# Altium schematic symbol library kmilo17pet-NSC_Interface.SchLib: 1433 symbols (part 39 of 51)
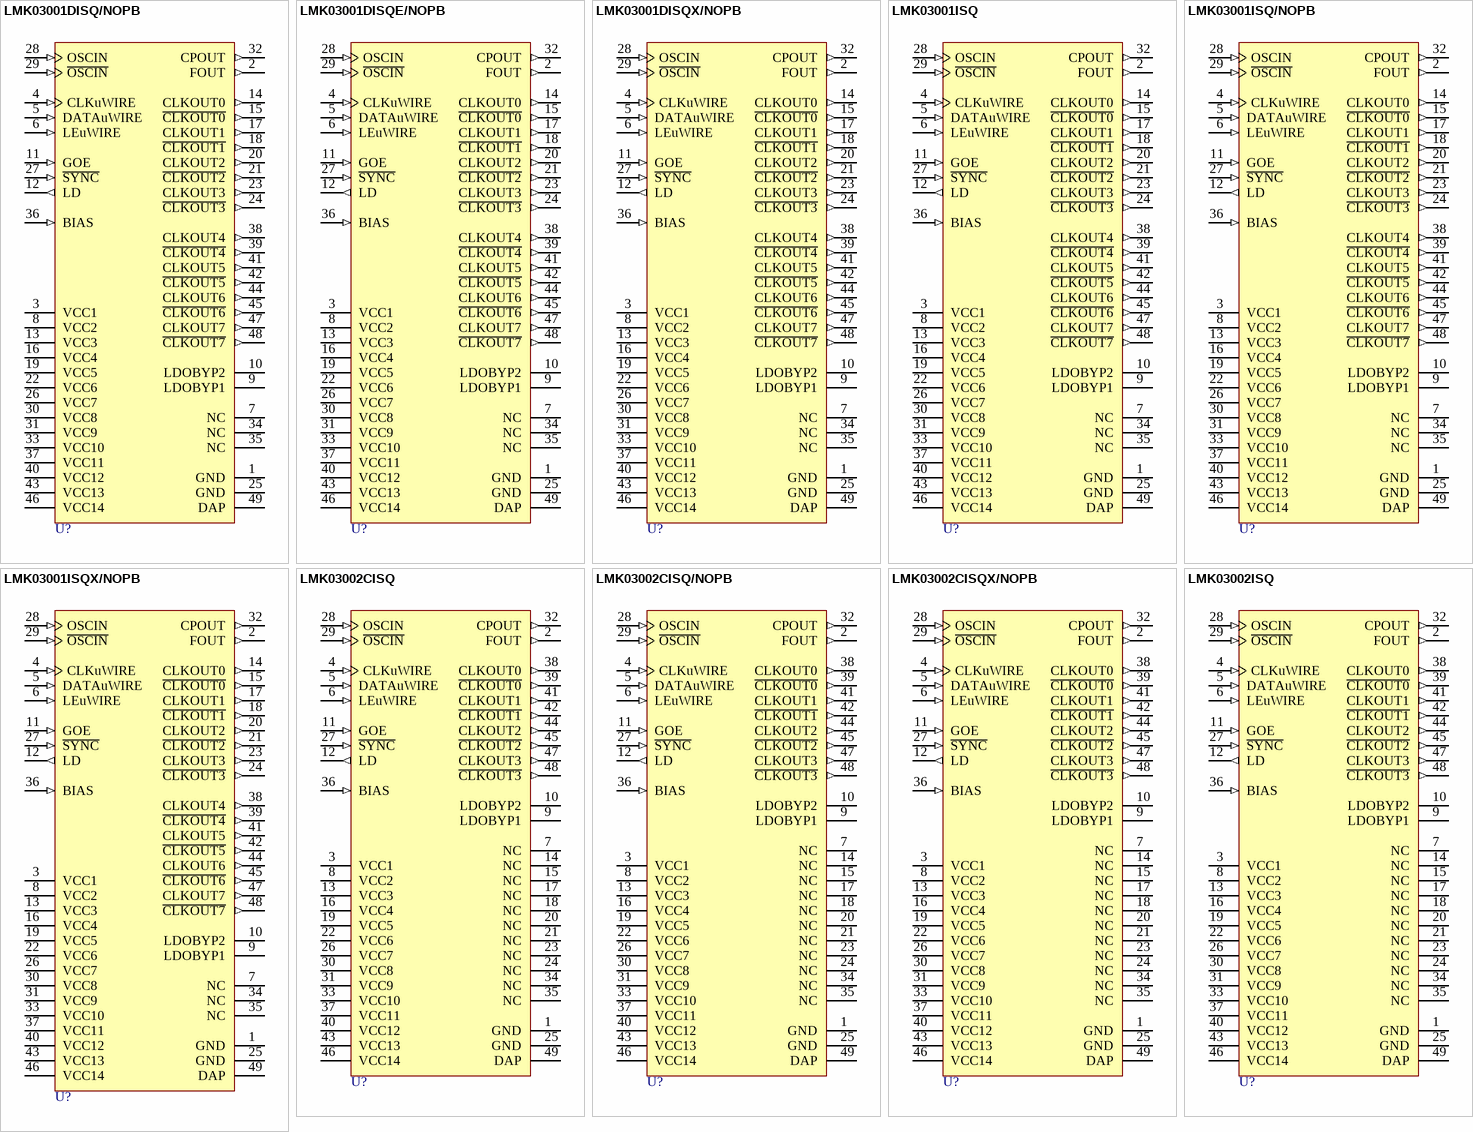
[diagram p162: symbols LMK03001DISQ/NOPB to LMK03002ISQ]

## LMK03001ISQX/NOPB
designator U?
Precision Clock Conditioner with Integrated VCO, 48-pin LLP, Pb-Free; PartNumber: LMK03001ISQX/NOPB; Manufacturer: National Semiconductor; PackageTopMarking: NS*UZXYTTE#*K03001 I; PowerWise: Y; CompType: Interface IC; DatasheetVersion: Jul-2009; PackageVersion: revB, May-2009; PackageReference: SQA48A; PackageDescription: LLP, Plastic, Quad, 7 x 7 x 0.8mm Body, 48 Lead, 0.5mm Pitch, No Pullback; RoHS: Y; PinCount: 48; High-Reliability: Y; Code_JEDEC: MO-220-WKKD-2; ComponentLink1Description: Manufacturer URL; ComponentLink1URL: http://www.national.com/; ComponentLink2Description: LMK03001 Datasheet; ComponentLink2URL: http://www.national.com/ds/LM/LMK03001.pdf; ComponentLink3Description: LMK03001 Web Page; ComponentLink3URL: http://www.national.com/pf/LM/LMK03001.html; ComponentLink4Description: SQA48A Package Page; ComponentLink4URL: http://www.national.com/packaging/folders/sqa48a.html
footprint SQA48A (QFN, 48-Leads, Body 7x7mm, Pitch 0.5mm, Thermal Pad 5.2x5.2mm, NSC Recommended)
pins: 1 GND (power), 2 FOUT (out), 3 VCC1 (power), 4 CLKuWIRE (in), 5 DATAuWIRE (in), 6 LEuWIRE (in), 7 NC, 8 VCC2 (power), 9 LDOBYP1, 10 LDOBYP2, 11 GOE (in), 12 LD (out), 13 VCC3 (power), 14 CLKOUT0 (out), 15 ~{CLKOUT0} (out), 16 VCC4 (power), 17 CLKOUT1 (out), 18 ~{CLKOUT1} (out), 19 VCC5 (power), 20 CLKOUT2 (out), 21 ~{CLKOUT2} (out), 22 VCC6 (power), 23 CLKOUT3 (out), 24 ~{CLKOUT3} (out), 25 GND (power), 26 VCC7 (power), 27 ~{SYNC} (in), 28 OSCIN (in), 29 ~{OSCIN} (in), 30 VCC8 (power), 31 VCC9 (power), 32 CPOUT (out), 33 VCC10 (power), 34 NC, 35 NC, 36 BIAS (in), 37 VCC11 (power), 38 CLKOUT4 (out), 39 ~{CLKOUT4} (out), 40 VCC12 (power), 41 CLKOUT5 (out), 42 ~{CLKOUT5} (out), 43 VCC13 (power), 44 CLKOUT6 (out), 45 ~{CLKOUT6} (out), 46 VCC14 (power), 47 CLKOUT7 (out), 48 ~{CLKOUT7} (out), 49 DAP (power)

## LMK03002CISQ
designator U?
Precision Clock Conditioner with Integrated VCO, 48-pin LLP; PartNumber: LMK03002CISQ; Manufacturer: National Semiconductor; PackageTopMarking: NS*UZXYTT*K03002CI; PowerWise: Y; CompType: Interface IC; DatasheetVersion: Jul-2009; PackageVersion: revB, May-2009; PackageReference: SQA48A; PackageDescription: LLP, Plastic, Quad, 7 x 7 x 0.8mm Body, 48 Lead, 0.5mm Pitch, No Pullback; RoHS: Y; PinCount: 48; High-Reliability: Y; Code_JEDEC: MO-220-WKKD-2; ComponentLink1Description: Manufacturer URL; ComponentLink1URL: http://www.national.com/; ComponentLink2Description: LMK03002C Datasheet; ComponentLink2URL: http://www.national.com/ds/LM/LMK03002C.pdf; ComponentLink3Description: LMK03002C Web Page; ComponentLink3URL: http://www.national.com/pf/LM/LMK03002C.html; ComponentLink4Description: SQA48A Package Page; ComponentLink4URL: http://www.national.com/packaging/folders/sqa48a.html
footprint SQA48A (QFN, 48-Leads, Body 7x7mm, Pitch 0.5mm, Thermal Pad 5.2x5.2mm, NSC Recommended)
pins: 1 GND (power), 2 FOUT (out), 3 VCC1 (power), 4 CLKuWIRE (in), 5 DATAuWIRE (in), 6 LEuWIRE (in), 7 NC, 8 VCC2 (power), 9 LDOBYP1, 10 LDOBYP2, 11 GOE (in), 12 LD (out), 13 VCC3 (power), 14 NC, 15 NC, 16 VCC4 (power), 17 NC, 18 NC, 19 VCC5 (power), 20 NC, 21 NC, 22 VCC6 (power), 23 NC, 24 NC, 25 GND (power), 26 VCC7 (power), 27 ~{SYNC} (in), 28 OSCIN (in), 29 ~{OSCIN} (in), 30 VCC8 (power), 31 VCC9 (power), 32 CPOUT (out), 33 VCC10 (power), 34 NC, 35 NC, 36 BIAS (in), 37 VCC11 (power), 38 CLKOUT0 (out), 39 ~{CLKOUT0} (out), 40 VCC12 (power), 41 CLKOUT1 (out), 42 ~{CLKOUT1} (out), 43 VCC13 (power), 44 CLKOUT2 (out), 45 ~{CLKOUT2} (out), 46 VCC14 (power), 47 CLKOUT3 (out), 48 ~{CLKOUT3} (out), 49 DAP (power)

## LMK03002CISQ/NOPB
designator U?
Precision Clock Conditioner with Integrated VCO, 48-pin LLP, Pb-Free; PartNumber: LMK03002CISQ/NOPB; Manufacturer: National Semiconductor; PackageTopMarking: NS*UZXYTTE#*K03002CI; PowerWise: Y; CompType: Interface IC; DatasheetVersion: Jul-2009; PackageVersion: revB, May-2009; PackageReference: SQA48A; PackageDescription: LLP, Plastic, Quad, 7 x 7 x 0.8mm Body, 48 Lead, 0.5mm Pitch, No Pullback; RoHS: Y; PinCount: 48; High-Reliability: Y; Code_JEDEC: MO-220-WKKD-2; ComponentLink1Description: Manufacturer URL; ComponentLink1URL: http://www.national.com/; ComponentLink2Description: LMK03002C Datasheet; ComponentLink2URL: http://www.national.com/ds/LM/LMK03002.pdf; ComponentLink3Description: LMK03002C Web Page; ComponentLink3URL: http://www.national.com/pf/LM/LMK03002C.html; ComponentLink4Description: SQA48A Package Page; ComponentLink4URL: http://www.national.com/packaging/folders/sqa48a.html
footprint SQA48A (QFN, 48-Leads, Body 7x7mm, Pitch 0.5mm, Thermal Pad 5.2x5.2mm, NSC Recommended)
pins: 1 GND (power), 2 FOUT (out), 3 VCC1 (power), 4 CLKuWIRE (in), 5 DATAuWIRE (in), 6 LEuWIRE (in), 7 NC, 8 VCC2 (power), 9 LDOBYP1, 10 LDOBYP2, 11 GOE (in), 12 LD (out), 13 VCC3 (power), 14 NC, 15 NC, 16 VCC4 (power), 17 NC, 18 NC, 19 VCC5 (power), 20 NC, 21 NC, 22 VCC6 (power), 23 NC, 24 NC, 25 GND (power), 26 VCC7 (power), 27 ~{SYNC} (in), 28 OSCIN (in), 29 ~{OSCIN} (in), 30 VCC8 (power), 31 VCC9 (power), 32 CPOUT (out), 33 VCC10 (power), 34 NC, 35 NC, 36 BIAS (in), 37 VCC11 (power), 38 CLKOUT0 (out), 39 ~{CLKOUT0} (out), 40 VCC12 (power), 41 CLKOUT1 (out), 42 ~{CLKOUT1} (out), 43 VCC13 (power), 44 CLKOUT2 (out), 45 ~{CLKOUT2} (out), 46 VCC14 (power), 47 CLKOUT3 (out), 48 ~{CLKOUT3} (out), 49 DAP (power)

## LMK03002CISQX/NOPB
designator U?
Precision Clock Conditioner with Integrated VCO, 48-pin LLP, Pb-Free; PartNumber: LMK03002CISQX/NOPB; Manufacturer: National Semiconductor; PackageTopMarking: NS*UZXYTTE#*K03002CI; PowerWise: Y; CompType: Interface IC; DatasheetVersion: Jul-2009; PackageVersion: revB, May-2009; PackageReference: SQA48A; PackageDescription: LLP, Plastic, Quad, 7 x 7 x 0.8mm Body, 48 Lead, 0.5mm Pitch, No Pullback; RoHS: Y; PinCount: 48; High-Reliability: Y; Code_JEDEC: MO-220-WKKD-2; ComponentLink1Description: Manufacturer URL; ComponentLink1URL: http://www.national.com/; ComponentLink2Description: LMK03002C Datasheet; ComponentLink2URL: http://www.national.com/ds/LM/LMK03002.pdf; ComponentLink3Description: LMK03002C Web Page; ComponentLink3URL: http://www.national.com/pf/LM/LMK03002C.html; ComponentLink4Description: SQA48A Package Page; ComponentLink4URL: http://www.national.com/packaging/folders/sqa48a.html
footprint SQA48A (QFN, 48-Leads, Body 7x7mm, Pitch 0.5mm, Thermal Pad 5.2x5.2mm, NSC Recommended)
pins: 1 GND (power), 2 FOUT (out), 3 VCC1 (power), 4 CLKuWIRE (in), 5 DATAuWIRE (in), 6 LEuWIRE (in), 7 NC, 8 VCC2 (power), 9 LDOBYP1, 10 LDOBYP2, 11 GOE (in), 12 LD (out), 13 VCC3 (power), 14 NC, 15 NC, 16 VCC4 (power), 17 NC, 18 NC, 19 VCC5 (power), 20 NC, 21 NC, 22 VCC6 (power), 23 NC, 24 NC, 25 GND (power), 26 VCC7 (power), 27 ~{SYNC} (in), 28 OSCIN (in), 29 ~{OSCIN} (in), 30 VCC8 (power), 31 VCC9 (power), 32 CPOUT (out), 33 VCC10 (power), 34 NC, 35 NC, 36 BIAS (in), 37 VCC11 (power), 38 CLKOUT0 (out), 39 ~{CLKOUT0} (out), 40 VCC12 (power), 41 CLKOUT1 (out), 42 ~{CLKOUT1} (out), 43 VCC13 (power), 44 CLKOUT2 (out), 45 ~{CLKOUT2} (out), 46 VCC14 (power), 47 CLKOUT3 (out), 48 ~{CLKOUT3} (out), 49 DAP (power)

## LMK03002ISQ
designator U?
Precision Clock Conditioner with Integrated VCO, 48-pin LLP; PartNumber: LMK03002ISQ; Manufacturer: National Semiconductor; PackageTopMarking: NS*UZXYTT*K03002 I; PowerWise: Y; CompType: Interface IC; DatasheetVersion: Jul-2009; PackageVersion: revB, May-2009; PackageReference: SQA48A; PackageDescription: LLP, Plastic, Quad, 7 x 7 x 0.8mm Body, 48 Lead, 0.5mm Pitch, No Pullback; RoHS: Y; PinCount: 48; High-Reliability: Y; Code_JEDEC: MO-220-WKKD-2; ComponentLink1Description: Manufacturer URL; ComponentLink1URL: http://www.national.com/; ComponentLink2Description: LMK03002 Datasheet; ComponentLink2URL: http://www.national.com/ds/LM/LMK03002.pdf; ComponentLink3Description: LMK03002 Web Page; ComponentLink3URL: http://www.national.com/pf/LM/LMK03002.html; ComponentLink4Description: SQA48A Package Page; ComponentLink4URL: http://www.national.com/packaging/folders/sqa48a.html
footprint SQA48A (QFN, 48-Leads, Body 7x7mm, Pitch 0.5mm, Thermal Pad 5.2x5.2mm, NSC Recommended)
pins: 1 GND (power), 2 FOUT (out), 3 VCC1 (power), 4 CLKuWIRE (in), 5 DATAuWIRE (in), 6 LEuWIRE (in), 7 NC, 8 VCC2 (power), 9 LDOBYP1, 10 LDOBYP2, 11 GOE (in), 12 LD (out), 13 VCC3 (power), 14 NC, 15 NC, 16 VCC4 (power), 17 NC, 18 NC, 19 VCC5 (power), 20 NC, 21 NC, 22 VCC6 (power), 23 NC, 24 NC, 25 GND (power), 26 VCC7 (power), 27 ~{SYNC} (in), 28 OSCIN (in), 29 ~{OSCIN} (in), 30 VCC8 (power), 31 VCC9 (power), 32 CPOUT (out), 33 VCC10 (power), 34 NC, 35 NC, 36 BIAS (in), 37 VCC11 (power), 38 CLKOUT0 (out), 39 ~{CLKOUT0} (out), 40 VCC12 (power), 41 CLKOUT1 (out), 42 ~{CLKOUT1} (out), 43 VCC13 (power), 44 CLKOUT2 (out), 45 ~{CLKOUT2} (out), 46 VCC14 (power), 47 CLKOUT3 (out), 48 ~{CLKOUT3} (out), 49 DAP (power)

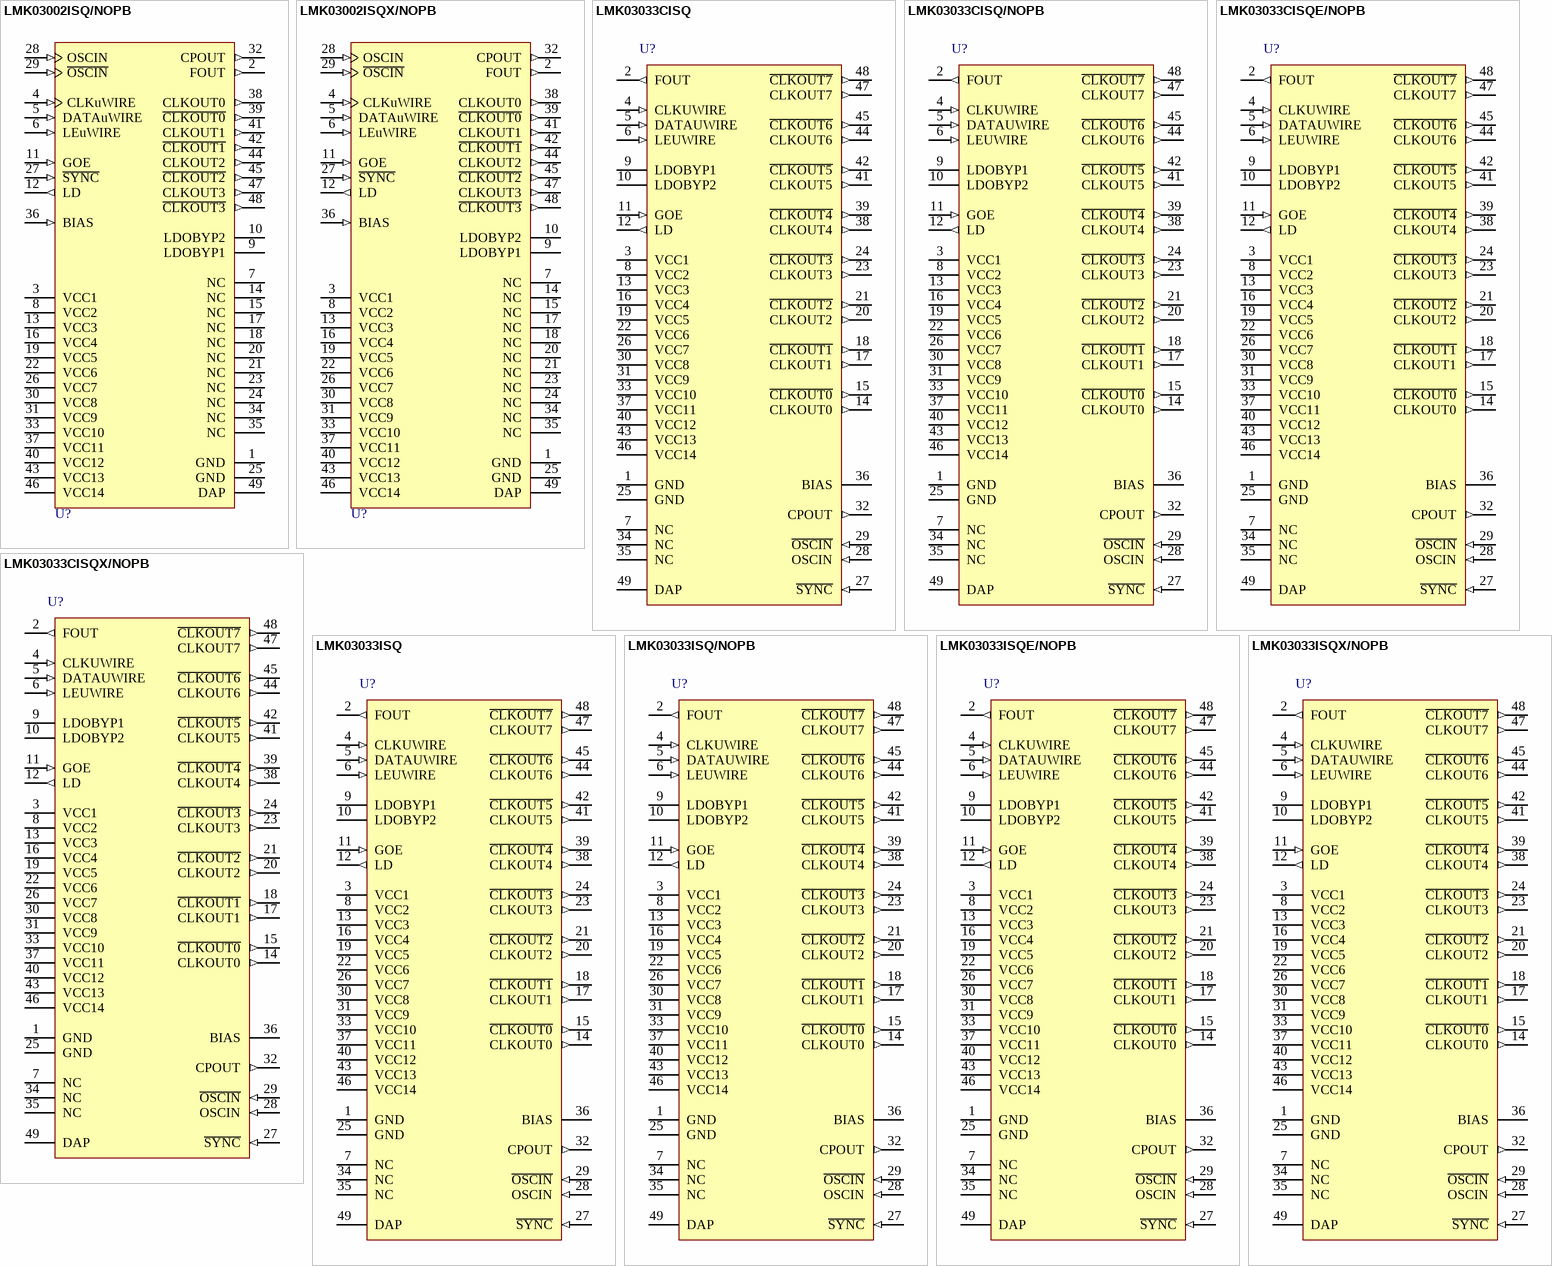
[diagram p96: symbols LMK03002ISQ/NOPB to LMK03033ISQX/NOPB]

## LMK03002ISQ/NOPB
designator U?
Precision Clock Conditioner with Integrated VCO, 48-pin LLP, Pb-Free; PartNumber: LMK03002ISQ/NOPB; Manufacturer: National Semiconductor; PackageTopMarking: NS*UZXYTTE#*K03002 I; PowerWise: Y; CompType: Interface IC; DatasheetVersion: Jul-2009; PackageVersion: revB, May-2009; PackageReference: SQA48A; PackageDescription: LLP, Plastic, Quad, 7 x 7 x 0.8mm Body, 48 Lead, 0.5mm Pitch, No Pullback; RoHS: Y; PinCount: 48; High-Reliability: Y; Code_JEDEC: MO-220-WKKD-2; ComponentLink1Description: Manufacturer URL; ComponentLink1URL: http://www.national.com/; ComponentLink2Description: LMK03002 Datasheet; ComponentLink2URL: http://www.national.com/ds/LM/LMK03002.pdf; ComponentLink3Description: LMK03002 Web Page; ComponentLink3URL: http://www.national.com/pf/LM/LMK03002.html; ComponentLink4Description: SQA48A Package Page; ComponentLink4URL: http://www.national.com/packaging/folders/sqa48a.html
footprint SQA48A (QFN, 48-Leads, Body 7x7mm, Pitch 0.5mm, Thermal Pad 5.2x5.2mm, NSC Recommended)
pins: 1 GND (power), 2 FOUT (out), 3 VCC1 (power), 4 CLKuWIRE (in), 5 DATAuWIRE (in), 6 LEuWIRE (in), 7 NC, 8 VCC2 (power), 9 LDOBYP1, 10 LDOBYP2, 11 GOE (in), 12 LD (out), 13 VCC3 (power), 14 NC, 15 NC, 16 VCC4 (power), 17 NC, 18 NC, 19 VCC5 (power), 20 NC, 21 NC, 22 VCC6 (power), 23 NC, 24 NC, 25 GND (power), 26 VCC7 (power), 27 ~{SYNC} (in), 28 OSCIN (in), 29 ~{OSCIN} (in), 30 VCC8 (power), 31 VCC9 (power), 32 CPOUT (out), 33 VCC10 (power), 34 NC, 35 NC, 36 BIAS (in), 37 VCC11 (power), 38 CLKOUT0 (out), 39 ~{CLKOUT0} (out), 40 VCC12 (power), 41 CLKOUT1 (out), 42 ~{CLKOUT1} (out), 43 VCC13 (power), 44 CLKOUT2 (out), 45 ~{CLKOUT2} (out), 46 VCC14 (power), 47 CLKOUT3 (out), 48 ~{CLKOUT3} (out), 49 DAP (power)

## LMK03002ISQX/NOPB
designator U?
Precision Clock Conditioner with Integrated VCO, 48-pin LLP, Pb-Free; PartNumber: LMK03002ISQX/NOPB; Manufacturer: National Semiconductor; PackageTopMarking: NS*UZXYTTE#*K03002 I; PowerWise: Y; CompType: Interface IC; DatasheetVersion: Jul-2009; PackageVersion: revB, May-2009; PackageReference: SQA48A; PackageDescription: LLP, Plastic, Quad, 7 x 7 x 0.8mm Body, 48 Lead, 0.5mm Pitch, No Pullback; RoHS: Y; PinCount: 48; High-Reliability: Y; Code_JEDEC: MO-220-WKKD-2; ComponentLink1Description: Manufacturer URL; ComponentLink1URL: http://www.national.com/; ComponentLink2Description: LMK03002 Datasheet; ComponentLink2URL: http://www.national.com/ds/LM/LMK03002.pdf; ComponentLink3Description: LMK03002 Web Page; ComponentLink3URL: http://www.national.com/pf/LM/LMK03002.html; ComponentLink4Description: SQA48A Package Page; ComponentLink4URL: http://www.national.com/packaging/folders/sqa48a.html
footprint SQA48A (QFN, 48-Leads, Body 7x7mm, Pitch 0.5mm, Thermal Pad 5.2x5.2mm, NSC Recommended)
pins: 1 GND (power), 2 FOUT (out), 3 VCC1 (power), 4 CLKuWIRE (in), 5 DATAuWIRE (in), 6 LEuWIRE (in), 7 NC, 8 VCC2 (power), 9 LDOBYP1, 10 LDOBYP2, 11 GOE (in), 12 LD (out), 13 VCC3 (power), 14 NC, 15 NC, 16 VCC4 (power), 17 NC, 18 NC, 19 VCC5 (power), 20 NC, 21 NC, 22 VCC6 (power), 23 NC, 24 NC, 25 GND (power), 26 VCC7 (power), 27 ~{SYNC} (in), 28 OSCIN (in), 29 ~{OSCIN} (in), 30 VCC8 (power), 31 VCC9 (power), 32 CPOUT (out), 33 VCC10 (power), 34 NC, 35 NC, 36 BIAS (in), 37 VCC11 (power), 38 CLKOUT0 (out), 39 ~{CLKOUT0} (out), 40 VCC12 (power), 41 CLKOUT1 (out), 42 ~{CLKOUT1} (out), 43 VCC13 (power), 44 CLKOUT2 (out), 45 ~{CLKOUT2} (out), 46 VCC14 (power), 47 CLKOUT3 (out), 48 ~{CLKOUT3} (out), 49 DAP (power)

## LMK03033CISQ
designator U?
Precision Clock Conditioner with Integrated VCO, 48-pin LLP; PartNumber: LMK03033CISQ; Manufacturer: National Semiconductor; PackageTopMarking: NS*UZXYTT*K03033CI; PowerWise: Y; CompType: Interface IC; DatasheetVersion: Jul-2009; PackageVersion: revB, May-2009; PackageReference: SQA48A; PackageDescription: LLP, Plastic, Quad, 7 x 7 x 0.8mm Body, 48 Lead, 0.5mm Pitch, No Pullback; RoHS: Y; PinCount: 48; High-Reliability: Y; Code_JEDEC: MO-220-WKKD-2; ComponentLink1Description: Manufacturer URL; ComponentLink1URL: http://www.national.com/; ComponentLink2Description: LMK03033C Datasheet; ComponentLink2URL: http://www.national.com/ds/LM/LMK03000.pdf; ComponentLink3Description: LMK03033C Web Page; ComponentLink3URL: http://www.national.com/pf/LM/LMK03033C.html; ComponentLink4Description: SQA48A Package Page; ComponentLink4URL: http://www.national.com/packaging/folders/sqa48a.html
footprint SQA48A (QFN, 48-Leads, Body 7x7mm, Pitch 0.5mm, Thermal Pad 5.2x5.2mm, NSC Recommended)
pins: 1 GND (power), 2 FOUT (out), 3 VCC1 (power), 4 CLKUWIRE (in), 5 DATAUWIRE (in), 6 LEUWIRE (in), 7 NC, 8 VCC2 (power), 9 LDOBYP1, 10 LDOBYP2, 11 GOE (in), 12 LD (out), 13 VCC3 (power), 14 CLKOUT0 (out), 15 ~{CLKOUT0} (out), 16 VCC4 (power), 17 CLKOUT1 (out), 18 ~{CLKOUT1} (out), 19 VCC5 (power), 20 CLKOUT2 (out), 21 ~{CLKOUT2} (out), 22 VCC6 (power), 23 CLKOUT3 (out), 24 ~{CLKOUT3} (out), 25 GND (power), 26 VCC7 (power), 27 ~{SYNC} (in), 28 OSCIN (in), 29 ~{OSCIN} (in), 30 VCC8 (power), 31 VCC9 (power), 32 CPOUT (out), 33 VCC10 (power), 34 NC, 35 NC, 36 BIAS, 37 VCC11 (power), 38 CLKOUT4 (out), 39 ~{CLKOUT4} (out), 40 VCC12 (power), 41 CLKOUT5 (out), 42 ~{CLKOUT5} (out), 43 VCC13 (power), 44 CLKOUT6 (out), 45 ~{CLKOUT6} (out), 46 VCC14 (power), 47 CLKOUT7 (out), 48 ~{CLKOUT7} (out), 49 DAP (power)

## LMK03033CISQ/NOPB
designator U?
Precision Clock Conditioner with Integrated VCO, 48-pin LLP, Pb-Free; PartNumber: LMK03033CISQ/NOPB; Manufacturer: National Semiconductor; PackageTopMarking: NS*UZXYTTE#*K03033CI; PowerWise: Y; CompType: Interface IC; DatasheetVersion: Jul-2009; PackageVersion: revB, May-2009; PackageReference: SQA48A; PackageDescription: LLP, Plastic, Quad, 7 x 7 x 0.8mm Body, 48 Lead, 0.5mm Pitch, No Pullback; RoHS: Y; PinCount: 48; High-Reliability: Y; Code_JEDEC: MO-220-WKKD-2; ComponentLink1Description: Manufacturer URL; ComponentLink1URL: http://www.national.com/; ComponentLink2Description: LMK03033 Datasheet; ComponentLink2URL: http://www.national.com/ds/LM/LMK03033.pdf; ComponentLink3Description: LMK03033 Web Page; ComponentLink3URL: http://www.national.com/pf/LM/LMK03033.html; ComponentLink4Description: SQA48A Package Page; ComponentLink4URL: http://www.national.com/packaging/folders/sqa48a.html
footprint SQA48A (QFN, 48-Leads, Body 7x7mm, Pitch 0.5mm, Thermal Pad 5.2x5.2mm, NSC Recommended)
pins: 1 GND (power), 2 FOUT (out), 3 VCC1 (power), 4 CLKUWIRE (in), 5 DATAUWIRE (in), 6 LEUWIRE (in), 7 NC, 8 VCC2 (power), 9 LDOBYP1, 10 LDOBYP2, 11 GOE (in), 12 LD (out), 13 VCC3 (power), 14 CLKOUT0 (out), 15 ~{CLKOUT0} (out), 16 VCC4 (power), 17 CLKOUT1 (out), 18 ~{CLKOUT1} (out), 19 VCC5 (power), 20 CLKOUT2 (out), 21 ~{CLKOUT2} (out), 22 VCC6 (power), 23 CLKOUT3 (out), 24 ~{CLKOUT3} (out), 25 GND (power), 26 VCC7 (power), 27 ~{SYNC} (in), 28 OSCIN (in), 29 ~{OSCIN} (in), 30 VCC8 (power), 31 VCC9 (power), 32 CPOUT (out), 33 VCC10 (power), 34 NC, 35 NC, 36 BIAS, 37 VCC11 (power), 38 CLKOUT4 (out), 39 ~{CLKOUT4} (out), 40 VCC12 (power), 41 CLKOUT5 (out), 42 ~{CLKOUT5} (out), 43 VCC13 (power), 44 CLKOUT6 (out), 45 ~{CLKOUT6} (out), 46 VCC14 (power), 47 CLKOUT7 (out), 48 ~{CLKOUT7} (out), 49 DAP (power)

## LMK03033CISQE/NOPB
designator U?
Precision Clock Conditioner with Integrated VCO, 48-pin LLP, Pb-Free; PartNumber: LMK03033CISQE/NOPB; Manufacturer: National Semiconductor; PackageTopMarking: NS*UZXYTTE#*K03033CI; PowerWise: Y; CompType: Interface IC; DatasheetVersion: Jul-2009; PackageVersion: revB, May-2009; PackageReference: SQA48A; PackageDescription: LLP, Plastic, Quad, 7 x 7 x 0.8mm Body, 48 Lead, 0.5mm Pitch, No Pullback; RoHS: Y; PinCount: 48; High-Reliability: Y; Code_JEDEC: MO-220-WKKD-2; ComponentLink1Description: Manufacturer URL; ComponentLink1URL: http://www.national.com/; ComponentLink2Description: LMK03033 Datasheet; ComponentLink2URL: http://www.national.com/ds/LM/LMK03033.pdf; ComponentLink3Description: LMK03033 Web Page; ComponentLink3URL: http://www.national.com/pf/LM/LMK03033.html; ComponentLink4Description: SQA48A Package Page; ComponentLink4URL: http://www.national.com/packaging/folders/sqa48a.html
footprint SQA48A (QFN, 48-Leads, Body 7x7mm, Pitch 0.5mm, Thermal Pad 5.2x5.2mm, NSC Recommended)
pins: 1 GND (power), 2 FOUT (out), 3 VCC1 (power), 4 CLKUWIRE (in), 5 DATAUWIRE (in), 6 LEUWIRE (in), 7 NC, 8 VCC2 (power), 9 LDOBYP1, 10 LDOBYP2, 11 GOE (in), 12 LD (out), 13 VCC3 (power), 14 CLKOUT0 (out), 15 ~{CLKOUT0} (out), 16 VCC4 (power), 17 CLKOUT1 (out), 18 ~{CLKOUT1} (out), 19 VCC5 (power), 20 CLKOUT2 (out), 21 ~{CLKOUT2} (out), 22 VCC6 (power), 23 CLKOUT3 (out), 24 ~{CLKOUT3} (out), 25 GND (power), 26 VCC7 (power), 27 ~{SYNC} (in), 28 OSCIN (in), 29 ~{OSCIN} (in), 30 VCC8 (power), 31 VCC9 (power), 32 CPOUT (out), 33 VCC10 (power), 34 NC, 35 NC, 36 BIAS, 37 VCC11 (power), 38 CLKOUT4 (out), 39 ~{CLKOUT4} (out), 40 VCC12 (power), 41 CLKOUT5 (out), 42 ~{CLKOUT5} (out), 43 VCC13 (power), 44 CLKOUT6 (out), 45 ~{CLKOUT6} (out), 46 VCC14 (power), 47 CLKOUT7 (out), 48 ~{CLKOUT7} (out), 49 DAP (power)

## LMK03033CISQX/NOPB
designator U?
Precision Clock Conditioner with Integrated VCO, 48-pin LLP, Pb-Free; PartNumber: LMK03033CISQX/NOPB; Manufacturer: National Semiconductor; PackageTopMarking: NS*UZXYTTE#*K03033CI; PowerWise: Y; CompType: Interface IC; DatasheetVersion: Jul-2009; PackageVersion: revB, May-2009; PackageReference: SQA48A; PackageDescription: LLP, Plastic, Quad, 7 x 7 x 0.8mm Body, 48 Lead, 0.5mm Pitch, No Pullback; RoHS: Y; PinCount: 48; High-Reliability: Y; Code_JEDEC: MO-220-WKKD-2; ComponentLink1Description: Manufacturer URL; ComponentLink1URL: http://www.national.com/; ComponentLink2Description: LMK03033 Datasheet; ComponentLink2URL: http://www.national.com/ds/LM/LMK03033.pdf; ComponentLink3Description: LMK03033 Web Page; ComponentLink3URL: http://www.national.com/pf/LM/LMK03033.html; ComponentLink4Description: SQA48A Package Page; ComponentLink4URL: http://www.national.com/packaging/folders/sqa48a.html
footprint SQA48A (QFN, 48-Leads, Body 7x7mm, Pitch 0.5mm, Thermal Pad 5.2x5.2mm, NSC Recommended)
pins: 1 GND (power), 2 FOUT (out), 3 VCC1 (power), 4 CLKUWIRE (in), 5 DATAUWIRE (in), 6 LEUWIRE (in), 7 NC, 8 VCC2 (power), 9 LDOBYP1, 10 LDOBYP2, 11 GOE (in), 12 LD (out), 13 VCC3 (power), 14 CLKOUT0 (out), 15 ~{CLKOUT0} (out), 16 VCC4 (power), 17 CLKOUT1 (out), 18 ~{CLKOUT1} (out), 19 VCC5 (power), 20 CLKOUT2 (out), 21 ~{CLKOUT2} (out), 22 VCC6 (power), 23 CLKOUT3 (out), 24 ~{CLKOUT3} (out), 25 GND (power), 26 VCC7 (power), 27 ~{SYNC} (in), 28 OSCIN (in), 29 ~{OSCIN} (in), 30 VCC8 (power), 31 VCC9 (power), 32 CPOUT (out), 33 VCC10 (power), 34 NC, 35 NC, 36 BIAS, 37 VCC11 (power), 38 CLKOUT4 (out), 39 ~{CLKOUT4} (out), 40 VCC12 (power), 41 CLKOUT5 (out), 42 ~{CLKOUT5} (out), 43 VCC13 (power), 44 CLKOUT6 (out), 45 ~{CLKOUT6} (out), 46 VCC14 (power), 47 CLKOUT7 (out), 48 ~{CLKOUT7} (out), 49 DAP (power)

## LMK03033ISQ
designator U?
Precision Clock Conditioner with Integrated VCO, 48-pin LLP; PartNumber: LMK03033ISQ; Manufacturer: National Semiconductor; PackageTopMarking: NS*UZXYTT*K03033 I; PowerWise: Y; CompType: Interface IC; DatasheetVersion: Jul-2009; PackageVersion: revB, May-2009; PackageReference: SQA48A; PackageDescription: LLP, Plastic, Quad, 7 x 7 x 0.8mm Body, 48 Lead, 0.5mm Pitch, No Pullback; RoHS: Y; PinCount: 48; High-Reliability: Y; Code_JEDEC: MO-220-WKKD-2; ComponentLink1Description: Manufacturer URL; ComponentLink1URL: http://www.national.com/; ComponentLink2Description: LMK03033 Datasheet; ComponentLink2URL: http://www.national.com/ds/LM/LMK03000.pdf; ComponentLink3Description: LMK03033 Web Page; ComponentLink3URL: http://www.national.com/pf/LM/LMK03033.html; ComponentLink4Description: SQA48A Package Page; ComponentLink4URL: http://www.national.com/packaging/folders/sqa48a.html
footprint SQA48A (QFN, 48-Leads, Body 7x7mm, Pitch 0.5mm, Thermal Pad 5.2x5.2mm, NSC Recommended)
pins: 1 GND (power), 2 FOUT (out), 3 VCC1 (power), 4 CLKUWIRE (in), 5 DATAUWIRE (in), 6 LEUWIRE (in), 7 NC, 8 VCC2 (power), 9 LDOBYP1, 10 LDOBYP2, 11 GOE (in), 12 LD (out), 13 VCC3 (power), 14 CLKOUT0 (out), 15 ~{CLKOUT0} (out), 16 VCC4 (power), 17 CLKOUT1 (out), 18 ~{CLKOUT1} (out), 19 VCC5 (power), 20 CLKOUT2 (out), 21 ~{CLKOUT2} (out), 22 VCC6 (power), 23 CLKOUT3 (out), 24 ~{CLKOUT3} (out), 25 GND (power), 26 VCC7 (power), 27 ~{SYNC} (in), 28 OSCIN (in), 29 ~{OSCIN} (in), 30 VCC8 (power), 31 VCC9 (power), 32 CPOUT (out), 33 VCC10 (power), 34 NC, 35 NC, 36 BIAS, 37 VCC11 (power), 38 CLKOUT4 (out), 39 ~{CLKOUT4} (out), 40 VCC12 (power), 41 CLKOUT5 (out), 42 ~{CLKOUT5} (out), 43 VCC13 (power), 44 CLKOUT6 (out), 45 ~{CLKOUT6} (out), 46 VCC14 (power), 47 CLKOUT7 (out), 48 ~{CLKOUT7} (out), 49 DAP (power)

## LMK03033ISQ/NOPB
designator U?
Precision Clock Conditioner with Integrated VCO, 48-pin LLP, Pb-Free; PartNumber: LMK03033ISQ/NOPB; Manufacturer: National Semiconductor; PackageTopMarking: NS*UZXYTTE#*K03033 I; PowerWise: Y; CompType: Interface IC; DatasheetVersion: Jul-2009; PackageVersion: revB, May-2009; PackageReference: SQA48A; PackageDescription: LLP, Plastic, Quad, 7 x 7 x 0.8mm Body, 48 Lead, 0.5mm Pitch, No Pullback; RoHS: Y; PinCount: 48; High-Reliability: Y; Code_JEDEC: MO-220-WKKD-2; ComponentLink1Description: Manufacturer URL; ComponentLink1URL: http://www.national.com/; ComponentLink2Description: LMK03033 Datasheet; ComponentLink2URL: http://www.national.com/ds/LM/LMK03033.pdf; ComponentLink3Description: LMK03033 Web Page; ComponentLink3URL: http://www.national.com/pf/LM/LMK03033.html; ComponentLink4Description: SQA48A Package Page; ComponentLink4URL: http://www.national.com/packaging/folders/sqa48a.html
footprint SQA48A (QFN, 48-Leads, Body 7x7mm, Pitch 0.5mm, Thermal Pad 5.2x5.2mm, NSC Recommended)
pins: 1 GND (power), 2 FOUT (out), 3 VCC1 (power), 4 CLKUWIRE (in), 5 DATAUWIRE (in), 6 LEUWIRE (in), 7 NC, 8 VCC2 (power), 9 LDOBYP1, 10 LDOBYP2, 11 GOE (in), 12 LD (out), 13 VCC3 (power), 14 CLKOUT0 (out), 15 ~{CLKOUT0} (out), 16 VCC4 (power), 17 CLKOUT1 (out), 18 ~{CLKOUT1} (out), 19 VCC5 (power), 20 CLKOUT2 (out), 21 ~{CLKOUT2} (out), 22 VCC6 (power), 23 CLKOUT3 (out), 24 ~{CLKOUT3} (out), 25 GND (power), 26 VCC7 (power), 27 ~{SYNC} (in), 28 OSCIN (in), 29 ~{OSCIN} (in), 30 VCC8 (power), 31 VCC9 (power), 32 CPOUT (out), 33 VCC10 (power), 34 NC, 35 NC, 36 BIAS, 37 VCC11 (power), 38 CLKOUT4 (out), 39 ~{CLKOUT4} (out), 40 VCC12 (power), 41 CLKOUT5 (out), 42 ~{CLKOUT5} (out), 43 VCC13 (power), 44 CLKOUT6 (out), 45 ~{CLKOUT6} (out), 46 VCC14 (power), 47 CLKOUT7 (out), 48 ~{CLKOUT7} (out), 49 DAP (power)

## LMK03033ISQE/NOPB
designator U?
Precision Clock Conditioner with Integrated VCO, 48-pin LLP, Pb-Free; PartNumber: LMK03033ISQE/NOPB; Manufacturer: National Semiconductor; PackageTopMarking: NS*UZXYTTE#*K03033 I; PowerWise: Y; CompType: Interface IC; DatasheetVersion: Jul-2009; PackageVersion: revB, May-2009; PackageReference: SQA48A; PackageDescription: LLP, Plastic, Quad, 7 x 7 x 0.8mm Body, 48 Lead, 0.5mm Pitch, No Pullback; RoHS: Y; PinCount: 48; High-Reliability: Y; Code_JEDEC: MO-220-WKKD-2; ComponentLink1Description: Manufacturer URL; ComponentLink1URL: http://www.national.com/; ComponentLink2Description: LMK03033 Datasheet; ComponentLink2URL: http://www.national.com/ds/LM/LMK03033.pdf; ComponentLink3Description: LMK03033 Web Page; ComponentLink3URL: http://www.national.com/pf/LM/LMK03033.html; ComponentLink4Description: SQA48A Package Page; ComponentLink4URL: http://www.national.com/packaging/folders/sqa48a.html
footprint SQA48A (QFN, 48-Leads, Body 7x7mm, Pitch 0.5mm, Thermal Pad 5.2x5.2mm, NSC Recommended)
pins: 1 GND (power), 2 FOUT (out), 3 VCC1 (power), 4 CLKUWIRE (in), 5 DATAUWIRE (in), 6 LEUWIRE (in), 7 NC, 8 VCC2 (power), 9 LDOBYP1, 10 LDOBYP2, 11 GOE (in), 12 LD (out), 13 VCC3 (power), 14 CLKOUT0 (out), 15 ~{CLKOUT0} (out), 16 VCC4 (power), 17 CLKOUT1 (out), 18 ~{CLKOUT1} (out), 19 VCC5 (power), 20 CLKOUT2 (out), 21 ~{CLKOUT2} (out), 22 VCC6 (power), 23 CLKOUT3 (out), 24 ~{CLKOUT3} (out), 25 GND (power), 26 VCC7 (power), 27 ~{SYNC} (in), 28 OSCIN (in), 29 ~{OSCIN} (in), 30 VCC8 (power), 31 VCC9 (power), 32 CPOUT (out), 33 VCC10 (power), 34 NC, 35 NC, 36 BIAS, 37 VCC11 (power), 38 CLKOUT4 (out), 39 ~{CLKOUT4} (out), 40 VCC12 (power), 41 CLKOUT5 (out), 42 ~{CLKOUT5} (out), 43 VCC13 (power), 44 CLKOUT6 (out), 45 ~{CLKOUT6} (out), 46 VCC14 (power), 47 CLKOUT7 (out), 48 ~{CLKOUT7} (out), 49 DAP (power)

## LMK03033ISQX/NOPB
designator U?
Precision Clock Conditioner with Integrated VCO, 48-pin LLP, Pb-Free; PartNumber: LMK03033ISQX/NOPB; Manufacturer: National Semiconductor; PackageTopMarking: NS*UZXYTTE#*K03033 I; PowerWise: Y; CompType: Interface IC; DatasheetVersion: Jul-2009; PackageVersion: revB, May-2009; PackageReference: SQA48A; PackageDescription: LLP, Plastic, Quad, 7 x 7 x 0.8mm Body, 48 Lead, 0.5mm Pitch, No Pullback; RoHS: Y; PinCount: 48; High-Reliability: Y; Code_JEDEC: MO-220-WKKD-2; ComponentLink1Description: Manufacturer URL; ComponentLink1URL: http://www.national.com/; ComponentLink2Description: LMK03033 Datasheet; ComponentLink2URL: http://www.national.com/ds/LM/LMK03033.pdf; ComponentLink3Description: LMK03033 Web Page; ComponentLink3URL: http://www.national.com/pf/LM/LMK03033.html; ComponentLink4Description: SQA48A Package Page; ComponentLink4URL: http://www.national.com/packaging/folders/sqa48a.html
footprint SQA48A (QFN, 48-Leads, Body 7x7mm, Pitch 0.5mm, Thermal Pad 5.2x5.2mm, NSC Recommended)
pins: 1 GND (power), 2 FOUT (out), 3 VCC1 (power), 4 CLKUWIRE (in), 5 DATAUWIRE (in), 6 LEUWIRE (in), 7 NC, 8 VCC2 (power), 9 LDOBYP1, 10 LDOBYP2, 11 GOE (in), 12 LD (out), 13 VCC3 (power), 14 CLKOUT0 (out), 15 ~{CLKOUT0} (out), 16 VCC4 (power), 17 CLKOUT1 (out), 18 ~{CLKOUT1} (out), 19 VCC5 (power), 20 CLKOUT2 (out), 21 ~{CLKOUT2} (out), 22 VCC6 (power), 23 CLKOUT3 (out), 24 ~{CLKOUT3} (out), 25 GND (power), 26 VCC7 (power), 27 ~{SYNC} (in), 28 OSCIN (in), 29 ~{OSCIN} (in), 30 VCC8 (power), 31 VCC9 (power), 32 CPOUT (out), 33 VCC10 (power), 34 NC, 35 NC, 36 BIAS, 37 VCC11 (power), 38 CLKOUT4 (out), 39 ~{CLKOUT4} (out), 40 VCC12 (power), 41 CLKOUT5 (out), 42 ~{CLKOUT5} (out), 43 VCC13 (power), 44 CLKOUT6 (out), 45 ~{CLKOUT6} (out), 46 VCC14 (power), 47 CLKOUT7 (out), 48 ~{CLKOUT7} (out), 49 DAP (power)

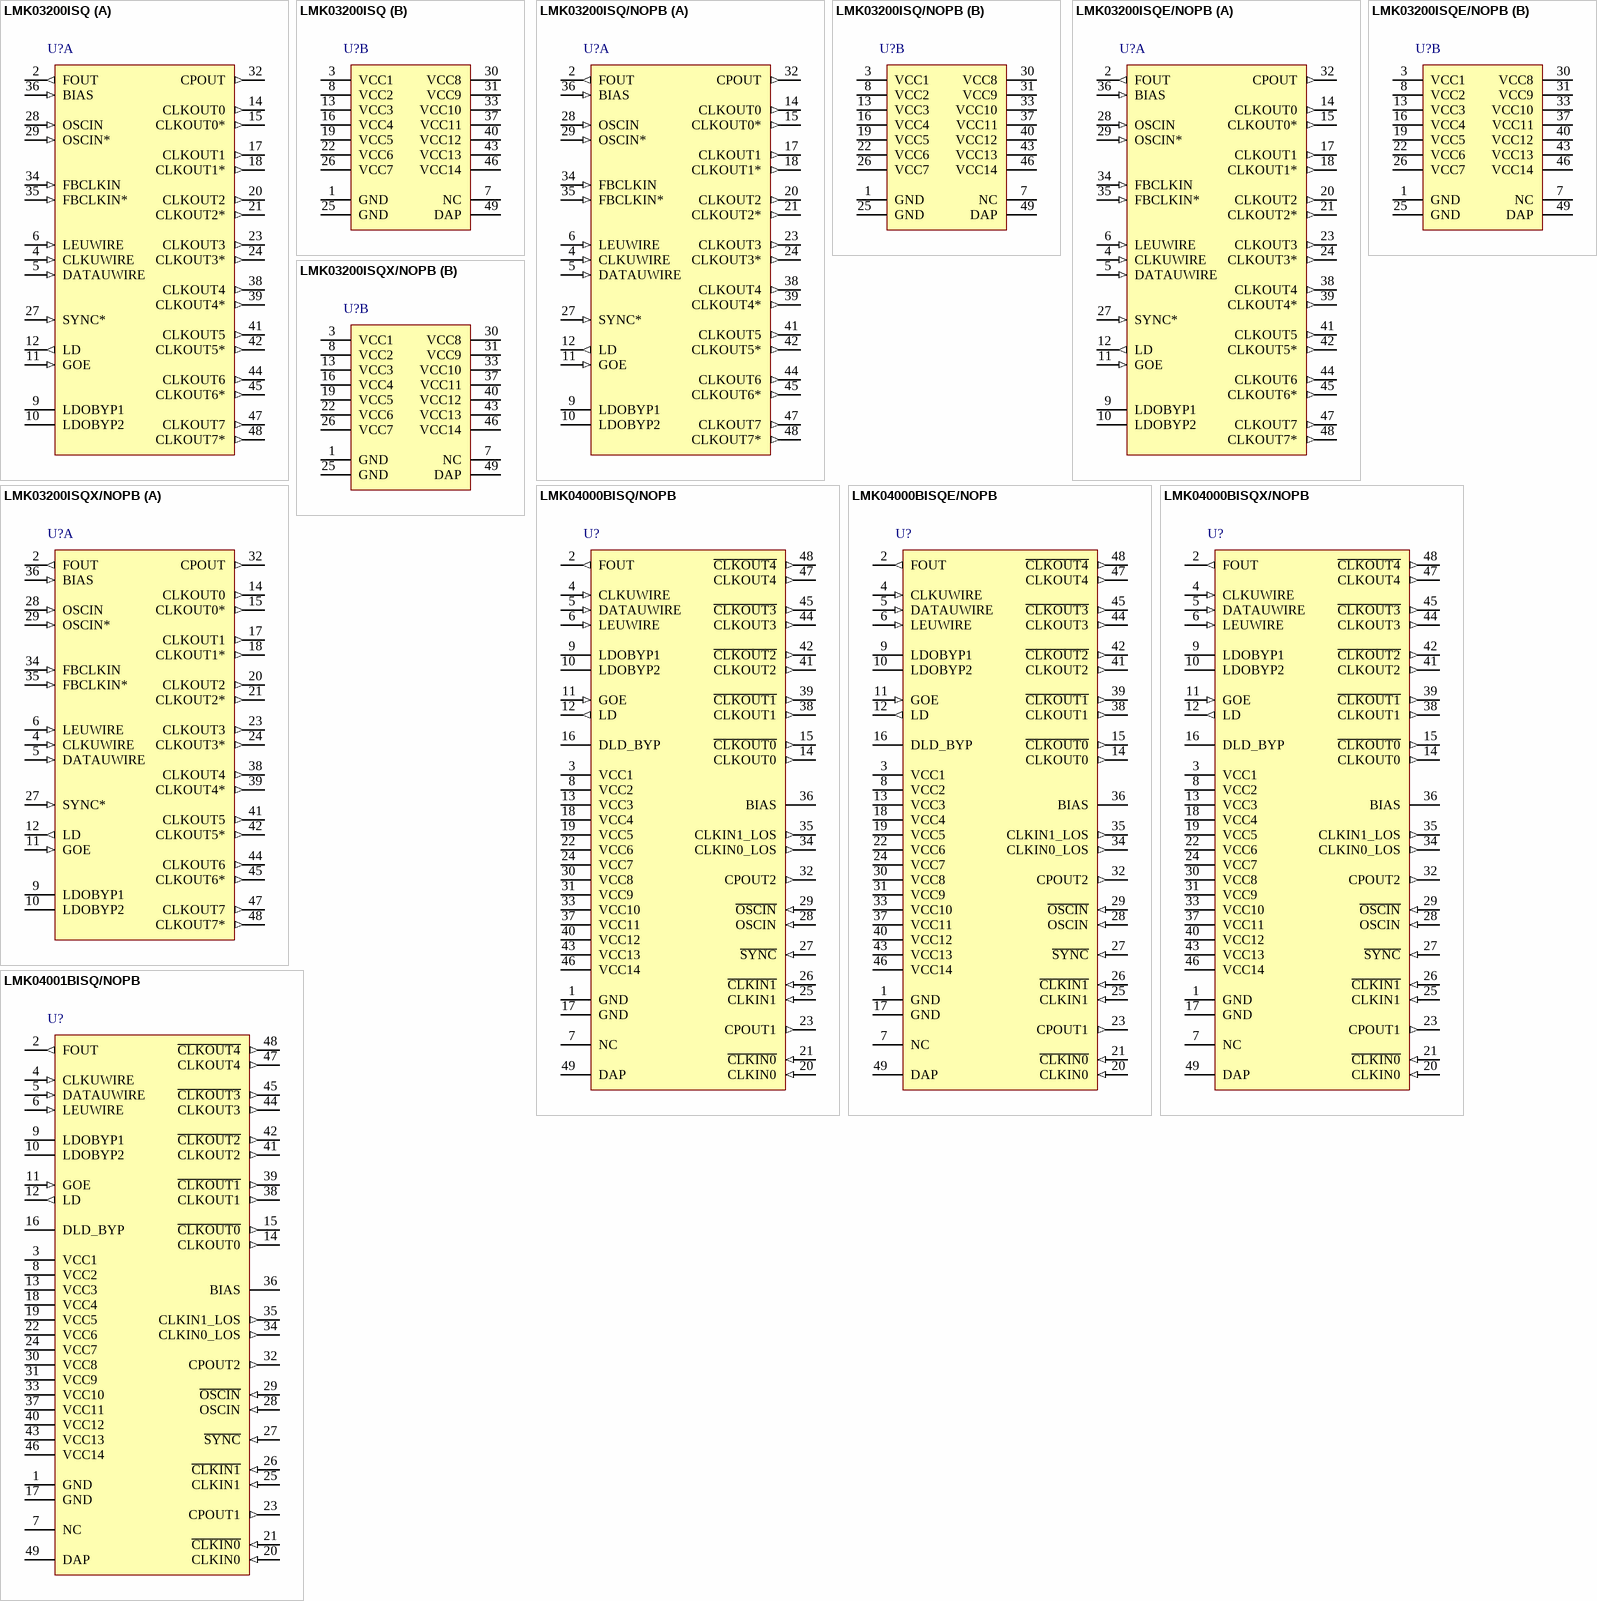
[diagram p97: symbols LMK03200ISQ to LMK04001BISQ/NOPB]

## LMK03200ISQ
designator U?
Precision 0-Delay Clock Conditioner with Integrated VCO, 48-pin LLP; PartNumber: LMK03200ISQ; Manufacturer: National Semiconductor; PackageTopMarking: NS*UZXYTT*K03200 I; PowerWise: N; CompType: Interface IC; High-Reliability: Y; DatasheetVersion: Aug-2009; PackageVersion: revB, May-2009; PackageReference: SQA48A; PackageDescription: LLP, Plastic, Quad, 7 x 7 x 0.8mm Body, 48 Lead, 0.5mm Pitch, No Pullback; RoHS: Y; PinCount: 48; Code_JEDEC: MO-220-WKKD-2; ComponentLink1Description: Manufacturer URL; ComponentLink1URL: http://www.national.com/; ComponentLink2Description: LMK03200 Datasheet; ComponentLink2URL: http://www.national.com/ds/LM/LMK03200.pdf; ComponentLink3Description: LMK03200 Web Page; ComponentLink3URL: http://www.national.com/pf/LM/LMK03200.html; ComponentLink4Description: SQA48A Package Page; ComponentLink4URL: http://www.national.com/packaging/folders/sqa48a.html
footprint SQA48A (QFN, 48-Leads, Body 7x7mm, Pitch 0.5mm, Thermal Pad 5.2x5.2mm, NSC Recommended)
part A pins: 2 FOUT (out), 4 CLKUWIRE (in), 5 DATAUWIRE (in), 6 LEUWIRE (in), 9 LDOBYP1, 10 LDOBYP2, 11 GOE (in), 12 LD (out), 14 CLKOUT0 (out), 15 CLKOUT0* (out), 17 CLKOUT1 (out), 18 CLKOUT1* (out), 20 CLKOUT2 (out), 21 CLKOUT2* (out), 23 CLKOUT3 (out), 24 CLKOUT3* (out), 27 SYNC* (in), 28 OSCIN (in), 29 OSCIN* (in), 32 CPOUT (out), 34 FBCLKIN (in), 35 FBCLKIN* (in), 36 BIAS (in), 38 CLKOUT4 (out), 39 CLKOUT4* (out), 41 CLKOUT5 (out), 42 CLKOUT5* (out), 44 CLKOUT6 (out), 45 CLKOUT6* (out), 47 CLKOUT7 (out), 48 CLKOUT7* (out)
part B pins: 1 GND (power), 3 VCC1 (power), 7 NC (power), 8 VCC2 (power), 13 VCC3 (power), 16 VCC4 (power), 19 VCC5 (power), 22 VCC6 (power), 25 GND (power), 26 VCC7 (power), 30 VCC8 (power), 31 VCC9 (power), 33 VCC10 (power), 37 VCC11 (power), 40 VCC12 (power), 43 VCC13 (power), 46 VCC14 (power), 49 DAP (power)

## LMK03200ISQ/NOPB
designator U?
Precision 0-Delay Clock Conditioner with Integrated VCO, 48-pin LLP, Pb-Free; PartNumber: LMK03200ISQ/NOPB; Manufacturer: National Semiconductor; PackageTopMarking: NS*UZXYTTE#*K03200 I; PowerWise: N; CompType: Interface IC; High-Reliability: Y; DatasheetVersion: Aug-2009; PackageVersion: revB, May-2009; PackageReference: SQA48A; PackageDescription: LLP, Plastic, Quad, 7 x 7 x 0.8mm Body, 48 Lead, 0.5mm Pitch, No Pullback; RoHS: Y; PinCount: 48; Code_JEDEC: MO-220-WKKD-2; ComponentLink1Description: Manufacturer URL; ComponentLink1URL: http://www.national.com/; ComponentLink2Description: LMK03200 Datasheet; ComponentLink2URL: http://www.national.com/ds/LM/LMK03200.pdf; ComponentLink3Description: LMK03200 Web Page; ComponentLink3URL: http://www.national.com/pf/LM/LMK03200.html; ComponentLink4Description: SQA48A Package Page; ComponentLink4URL: http://www.national.com/packaging/folders/sqa48a.html
footprint SQA48A (QFN, 48-Leads, Body 7x7mm, Pitch 0.5mm, Thermal Pad 5.2x5.2mm, NSC Recommended)
part A pins: 2 FOUT (out), 4 CLKUWIRE (in), 5 DATAUWIRE (in), 6 LEUWIRE (in), 9 LDOBYP1, 10 LDOBYP2, 11 GOE (in), 12 LD (out), 14 CLKOUT0 (out), 15 CLKOUT0* (out), 17 CLKOUT1 (out), 18 CLKOUT1* (out), 20 CLKOUT2 (out), 21 CLKOUT2* (out), 23 CLKOUT3 (out), 24 CLKOUT3* (out), 27 SYNC* (in), 28 OSCIN (in), 29 OSCIN* (in), 32 CPOUT (out), 34 FBCLKIN (in), 35 FBCLKIN* (in), 36 BIAS (in), 38 CLKOUT4 (out), 39 CLKOUT4* (out), 41 CLKOUT5 (out), 42 CLKOUT5* (out), 44 CLKOUT6 (out), 45 CLKOUT6* (out), 47 CLKOUT7 (out), 48 CLKOUT7* (out)
part B pins: 1 GND (power), 3 VCC1 (power), 7 NC (power), 8 VCC2 (power), 13 VCC3 (power), 16 VCC4 (power), 19 VCC5 (power), 22 VCC6 (power), 25 GND (power), 26 VCC7 (power), 30 VCC8 (power), 31 VCC9 (power), 33 VCC10 (power), 37 VCC11 (power), 40 VCC12 (power), 43 VCC13 (power), 46 VCC14 (power), 49 DAP (power)

## LMK03200ISQE/NOPB
designator U?
Precision 0-Delay Clock Conditioner with Integrated VCO, 48-pin LLP, Pb-Free; PartNumber: LMK03200ISQE/NOPB; Manufacturer: National Semiconductor; PackageTopMarking: NS*UZXYTTE#*K03200 I; PowerWise: N; CompType: Interface IC; High-Reliability: Y; DatasheetVersion: Aug-2009; PackageVersion: revB, May-2009; PackageReference: SQA48A; PackageDescription: LLP, Plastic, Quad, 7 x 7 x 0.8mm Body, 48 Lead, 0.5mm Pitch, No Pullback; RoHS: Y; PinCount: 48; Code_JEDEC: MO-220-WKKD-2; ComponentLink1Description: Manufacturer URL; ComponentLink1URL: http://www.national.com/; ComponentLink2Description: LMK03200 Datasheet; ComponentLink2URL: http://www.national.com/ds/LM/LMK03200.pdf; ComponentLink3Description: LMK03200 Web Page; ComponentLink3URL: http://www.national.com/pf/LM/LMK03200.html; ComponentLink4Description: SQA48A Package Page; ComponentLink4URL: http://www.national.com/packaging/folders/sqa48a.html
footprint SQA48A (QFN, 48-Leads, Body 7x7mm, Pitch 0.5mm, Thermal Pad 5.2x5.2mm, NSC Recommended)
part A pins: 2 FOUT (out), 4 CLKUWIRE (in), 5 DATAUWIRE (in), 6 LEUWIRE (in), 9 LDOBYP1, 10 LDOBYP2, 11 GOE (in), 12 LD (out), 14 CLKOUT0 (out), 15 CLKOUT0* (out), 17 CLKOUT1 (out), 18 CLKOUT1* (out), 20 CLKOUT2 (out), 21 CLKOUT2* (out), 23 CLKOUT3 (out), 24 CLKOUT3* (out), 27 SYNC* (in), 28 OSCIN (in), 29 OSCIN* (in), 32 CPOUT (out), 34 FBCLKIN (in), 35 FBCLKIN* (in), 36 BIAS (in), 38 CLKOUT4 (out), 39 CLKOUT4* (out), 41 CLKOUT5 (out), 42 CLKOUT5* (out), 44 CLKOUT6 (out), 45 CLKOUT6* (out), 47 CLKOUT7 (out), 48 CLKOUT7* (out)
part B pins: 1 GND (power), 3 VCC1 (power), 7 NC (power), 8 VCC2 (power), 13 VCC3 (power), 16 VCC4 (power), 19 VCC5 (power), 22 VCC6 (power), 25 GND (power), 26 VCC7 (power), 30 VCC8 (power), 31 VCC9 (power), 33 VCC10 (power), 37 VCC11 (power), 40 VCC12 (power), 43 VCC13 (power), 46 VCC14 (power), 49 DAP (power)

## LMK03200ISQX/NOPB
designator U?
Precision 0-Delay Clock Conditioner with Integrated VCO, 48-pin LLP, Pb-Free; PartNumber: LMK03200ISQX/NOPB; Manufacturer: National Semiconductor; PackageTopMarking: NS*UZXYTTE#*K03200 I; PowerWise: N; CompType: Interface IC; High-Reliability: Y; DatasheetVersion: Aug-2009; PackageVersion: revB, May-2009; PackageReference: SQA48A; PackageDescription: LLP, Plastic, Quad, 7 x 7 x 0.8mm Body, 48 Lead, 0.5mm Pitch, No Pullback; RoHS: Y; PinCount: 48; Code_JEDEC: MO-220-WKKD-2; ComponentLink1Description: Manufacturer URL; ComponentLink1URL: http://www.national.com/; ComponentLink2Description: LMK03200 Datasheet; ComponentLink2URL: http://www.national.com/ds/LM/LMK03200.pdf; ComponentLink3Description: LMK03200 Web Page; ComponentLink3URL: http://www.national.com/pf/LM/LMK03200.html; ComponentLink4Description: SQA48A Package Page; ComponentLink4URL: http://www.national.com/packaging/folders/sqa48a.html
footprint SQA48A (QFN, 48-Leads, Body 7x7mm, Pitch 0.5mm, Thermal Pad 5.2x5.2mm, NSC Recommended)
part A pins: 2 FOUT (out), 4 CLKUWIRE (in), 5 DATAUWIRE (in), 6 LEUWIRE (in), 9 LDOBYP1, 10 LDOBYP2, 11 GOE (in), 12 LD (out), 14 CLKOUT0 (out), 15 CLKOUT0* (out), 17 CLKOUT1 (out), 18 CLKOUT1* (out), 20 CLKOUT2 (out), 21 CLKOUT2* (out), 23 CLKOUT3 (out), 24 CLKOUT3* (out), 27 SYNC* (in), 28 OSCIN (in), 29 OSCIN* (in), 32 CPOUT (out), 34 FBCLKIN (in), 35 FBCLKIN* (in), 36 BIAS (in), 38 CLKOUT4 (out), 39 CLKOUT4* (out), 41 CLKOUT5 (out), 42 CLKOUT5* (out), 44 CLKOUT6 (out), 45 CLKOUT6* (out), 47 CLKOUT7 (out), 48 CLKOUT7* (out)
part B pins: 1 GND (power), 3 VCC1 (power), 7 NC (power), 8 VCC2 (power), 13 VCC3 (power), 16 VCC4 (power), 19 VCC5 (power), 22 VCC6 (power), 25 GND (power), 26 VCC7 (power), 30 VCC8 (power), 31 VCC9 (power), 33 VCC10 (power), 37 VCC11 (power), 40 VCC12 (power), 43 VCC13 (power), 46 VCC14 (power), 49 DAP (power)

## LMK04000BISQ/NOPB
designator U?
Precision Clock Conditioners Low-Noise Clock Jitter Cleaner with Cascaded PLLs, 48-pin LLP, Pb-Free; PartNumber: LMK04000BISQ/NOPB; Manufacturer: National Semiconductor; PackageTopMarking: NS*UZXYTTE#*K04000BI; PowerWise: Y; CompType: Interface IC; DatasheetVersion: Jul-2009; PackageVersion: revB, May-2009; PackageReference: SQA48A; PackageDescription: LLP, Plastic, Quad, 7 x 7 x 0.8mm Body, 48 Lead, 0.5mm Pitch, No Pullback; RoHS: Y; PinCount: 48; High-Reliability: Y; Code_JEDEC: MO-220-WKKD-2; ComponentLink1Description: Manufacturer URL; ComponentLink1URL: http://www.national.com/; ComponentLink2Description: LMK04000 Datasheet; ComponentLink2URL: http://www.national.com/ds/LM/LMK04000.pdf; ComponentLink3Description: LMK04000 Web Page; ComponentLink3URL: http://www.national.com/pf/LM/LMK04000.html; ComponentLink4Description: SQA48A Package Page; ComponentLink4URL: http://www.national.com/packaging/folders/sqa48a.html
footprint SQA48A (QFN, 48-Leads, Body 7x7mm, Pitch 0.5mm, Thermal Pad 5.2x5.2mm, NSC Recommended)
pins: 1 GND (power), 2 FOUT (out), 3 VCC1 (power), 4 CLKUWIRE (in), 5 DATAUWIRE (in), 6 LEUWIRE (in), 7 NC, 8 VCC2 (power), 9 LDOBYP1, 10 LDOBYP2, 11 GOE (in), 12 LD (out), 13 VCC3 (power), 14 CLKOUT0 (out), 15 ~{CLKOUT0} (out), 16 DLD_BYP (power), 17 GND (power), 18 VCC4 (power), 19 VCC5 (power), 20 CLKIN0 (in), 21 ~{CLKIN0} (in), 22 VCC6 (power), 23 CPOUT1 (out), 24 VCC7 (power), 25 CLKIN1 (in), 26 ~{CLKIN1} (in), 27 ~{SYNC} (in), 28 OSCIN (in), 29 ~{OSCIN} (in), 30 VCC8 (power), 31 VCC9 (power), 32 CPOUT2 (out), 33 VCC10 (power), 34 CLKIN0_LOS (out), 35 CLKIN1_LOS (out), 36 BIAS, 37 VCC11 (power), 38 CLKOUT1 (out), 39 ~{CLKOUT1} (out), 40 VCC12 (power), 41 CLKOUT2 (out), 42 ~{CLKOUT2} (out), 43 VCC13 (power), 44 CLKOUT3 (out), 45 ~{CLKOUT3} (out), 46 VCC14 (power), 47 CLKOUT4 (out), 48 ~{CLKOUT4} (out), 49 DAP (power)

## LMK04000BISQE/NOPB
designator U?
Precision Clock Conditioners Low-Noise Clock Jitter Cleaner with Cascaded PLLs, 48-pin LLP, Pb-Free; PartNumber: LMK04000BISQE/NOPB; Manufacturer: National Semiconductor; PackageTopMarking: NS*UZXYTTE#*K04000BI; PowerWise: Y; CompType: Interface IC; DatasheetVersion: Jul-2009; PackageVersion: revB, May-2009; PackageReference: SQA48A; PackageDescription: LLP, Plastic, Quad, 7 x 7 x 0.8mm Body, 48 Lead, 0.5mm Pitch, No Pullback; RoHS: Y; PinCount: 48; High-Reliability: Y; Code_JEDEC: MO-220-WKKD-2; ComponentLink1Description: Manufacturer URL; ComponentLink1URL: http://www.national.com/; ComponentLink2Description: LMK04000 Datasheet; ComponentLink2URL: http://www.national.com/ds/LM/LMK04000.pdf; ComponentLink3Description: LMK04000 Web Page; ComponentLink3URL: http://www.national.com/pf/LM/LMK04000.html; ComponentLink4Description: SQA48A Package Page; ComponentLink4URL: http://www.national.com/packaging/folders/sqa48a.html
footprint SQA48A (QFN, 48-Leads, Body 7x7mm, Pitch 0.5mm, Thermal Pad 5.2x5.2mm, NSC Recommended)
pins: 1 GND (power), 2 FOUT (out), 3 VCC1 (power), 4 CLKUWIRE (in), 5 DATAUWIRE (in), 6 LEUWIRE (in), 7 NC, 8 VCC2 (power), 9 LDOBYP1, 10 LDOBYP2, 11 GOE (in), 12 LD (out), 13 VCC3 (power), 14 CLKOUT0 (out), 15 ~{CLKOUT0} (out), 16 DLD_BYP (power), 17 GND (power), 18 VCC4 (power), 19 VCC5 (power), 20 CLKIN0 (in), 21 ~{CLKIN0} (in), 22 VCC6 (power), 23 CPOUT1 (out), 24 VCC7 (power), 25 CLKIN1 (in), 26 ~{CLKIN1} (in), 27 ~{SYNC} (in), 28 OSCIN (in), 29 ~{OSCIN} (in), 30 VCC8 (power), 31 VCC9 (power), 32 CPOUT2 (out), 33 VCC10 (power), 34 CLKIN0_LOS (out), 35 CLKIN1_LOS (out), 36 BIAS, 37 VCC11 (power), 38 CLKOUT1 (out), 39 ~{CLKOUT1} (out), 40 VCC12 (power), 41 CLKOUT2 (out), 42 ~{CLKOUT2} (out), 43 VCC13 (power), 44 CLKOUT3 (out), 45 ~{CLKOUT3} (out), 46 VCC14 (power), 47 CLKOUT4 (out), 48 ~{CLKOUT4} (out), 49 DAP (power)

## LMK04000BISQX/NOPB
designator U?
Precision Clock Conditioners Low-Noise Clock Jitter Cleaner with Cascaded PLLs, 48-pin LLP, Pb-Free; PartNumber: LMK04000BISQX/NOPB; Manufacturer: National Semiconductor; PackageTopMarking: NS*UZXYTTE#*K04000BI; PowerWise: Y; CompType: Interface IC; DatasheetVersion: Jul-2009; PackageVersion: revB, May-2009; PackageReference: SQA48A; PackageDescription: LLP, Plastic, Quad, 7 x 7 x 0.8mm Body, 48 Lead, 0.5mm Pitch, No Pullback; RoHS: Y; PinCount: 48; High-Reliability: Y; Code_JEDEC: MO-220-WKKD-2; ComponentLink1Description: Manufacturer URL; ComponentLink1URL: http://www.national.com/; ComponentLink2Description: LMK04000 Datasheet; ComponentLink2URL: http://www.national.com/ds/LM/LMK04000.pdf; ComponentLink3Description: LMK04000 Web Page; ComponentLink3URL: http://www.national.com/pf/LM/LMK04000.html; ComponentLink4Description: SQA48A Package Page; ComponentLink4URL: http://www.national.com/packaging/folders/sqa48a.html
footprint SQA48A (QFN, 48-Leads, Body 7x7mm, Pitch 0.5mm, Thermal Pad 5.2x5.2mm, NSC Recommended)
pins: 1 GND (power), 2 FOUT (out), 3 VCC1 (power), 4 CLKUWIRE (in), 5 DATAUWIRE (in), 6 LEUWIRE (in), 7 NC, 8 VCC2 (power), 9 LDOBYP1, 10 LDOBYP2, 11 GOE (in), 12 LD (out), 13 VCC3 (power), 14 CLKOUT0 (out), 15 ~{CLKOUT0} (out), 16 DLD_BYP (power), 17 GND (power), 18 VCC4 (power), 19 VCC5 (power), 20 CLKIN0 (in), 21 ~{CLKIN0} (in), 22 VCC6 (power), 23 CPOUT1 (out), 24 VCC7 (power), 25 CLKIN1 (in), 26 ~{CLKIN1} (in), 27 ~{SYNC} (in), 28 OSCIN (in), 29 ~{OSCIN} (in), 30 VCC8 (power), 31 VCC9 (power), 32 CPOUT2 (out), 33 VCC10 (power), 34 CLKIN0_LOS (out), 35 CLKIN1_LOS (out), 36 BIAS, 37 VCC11 (power), 38 CLKOUT1 (out), 39 ~{CLKOUT1} (out), 40 VCC12 (power), 41 CLKOUT2 (out), 42 ~{CLKOUT2} (out), 43 VCC13 (power), 44 CLKOUT3 (out), 45 ~{CLKOUT3} (out), 46 VCC14 (power), 47 CLKOUT4 (out), 48 ~{CLKOUT4} (out), 49 DAP (power)

## LMK04001BISQ/NOPB
designator U?
Low-Noise Clock Jitter Cleaner with Cascaded PLLs, 48-pin LLP, Pb-Free; PartNumber: LMK04001BISQ/NOPB; Manufacturer: National Semiconductor; PackageTopMarking: NS*UZXYTTE#*K04001BI; PowerWise: Y; CompType: Interface IC; DatasheetVersion: Jul-2009; PackageVersion: revB, May-2009; PackageReference: SQA48A; PackageDescription: LLP, Plastic, Quad, 7 x 7 x 0.8mm Body, 48 Lead, 0.5mm Pitch, No Pullback; RoHS: Y; PinCount: 48; High-Reliability: Y; Code_JEDEC: MO-220-WKKD-2; ComponentLink1Description: Manufacturer URL; ComponentLink1URL: http://www.national.com/; ComponentLink2Description: LMK04001 Datasheet; ComponentLink2URL: http://www.national.com/ds/LM/LMK04001.pdf; ComponentLink3Description: LMK04001 Web Page; ComponentLink3URL: http://www.national.com/pf/LM/LMK04001.html; ComponentLink4Description: SQA48A Package Page; ComponentLink4URL: http://www.national.com/packaging/folders/sqa48a.html
footprint SQA48A (QFN, 48-Leads, Body 7x7mm, Pitch 0.5mm, Thermal Pad 5.2x5.2mm, NSC Recommended)
pins: 1 GND (power), 2 FOUT (out), 3 VCC1 (power), 4 CLKUWIRE (in), 5 DATAUWIRE (in), 6 LEUWIRE (in), 7 NC, 8 VCC2 (power), 9 LDOBYP1, 10 LDOBYP2, 11 GOE (in), 12 LD (out), 13 VCC3 (power), 14 CLKOUT0 (out), 15 ~{CLKOUT0} (out), 16 DLD_BYP (power), 17 GND (power), 18 VCC4 (power), 19 VCC5 (power), 20 CLKIN0 (in), 21 ~{CLKIN0} (in), 22 VCC6 (power), 23 CPOUT1 (out), 24 VCC7 (power), 25 CLKIN1 (in), 26 ~{CLKIN1} (in), 27 ~{SYNC} (in), 28 OSCIN (in), 29 ~{OSCIN} (in), 30 VCC8 (power), 31 VCC9 (power), 32 CPOUT2 (out), 33 VCC10 (power), 34 CLKIN0_LOS (out), 35 CLKIN1_LOS (out), 36 BIAS, 37 VCC11 (power), 38 CLKOUT1 (out), 39 ~{CLKOUT1} (out), 40 VCC12 (power), 41 CLKOUT2 (out), 42 ~{CLKOUT2} (out), 43 VCC13 (power), 44 CLKOUT3 (out), 45 ~{CLKOUT3} (out), 46 VCC14 (power), 47 CLKOUT4 (out), 48 ~{CLKOUT4} (out), 49 DAP (power)

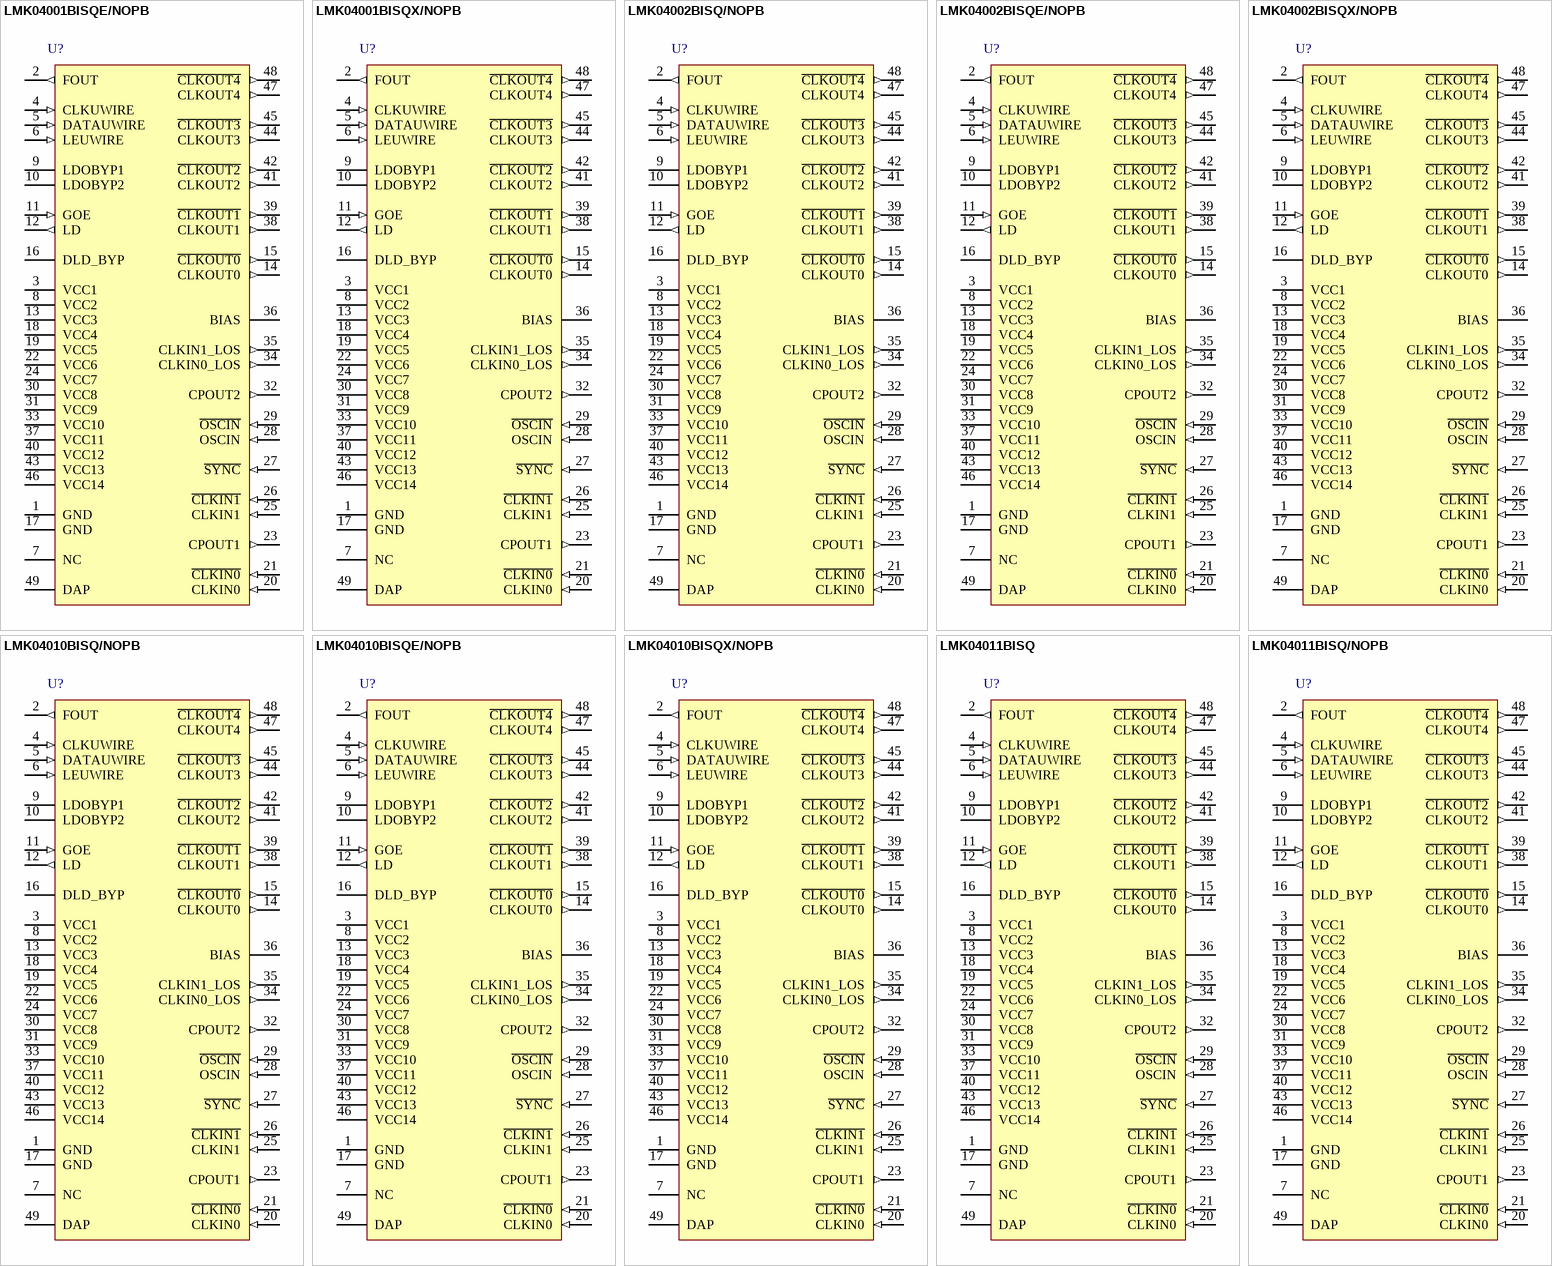
[diagram p98: symbols LMK04001BISQE/NOPB to LMK04011BISQ/NOPB]

## LMK04001BISQE/NOPB
designator U?
Low-Noise Clock Jitter Cleaner with Cascaded PLLs, 48-pin LLP, Pb-Free; PartNumber: LMK04001BISQE/NOPB; Manufacturer: National Semiconductor; PackageTopMarking: NS*UZXYTTE#*K04001BI; PowerWise: Y; CompType: Interface IC; DatasheetVersion: Jul-2009; PackageVersion: revB, May-2009; PackageReference: SQA48A; PackageDescription: LLP, Plastic, Quad, 7 x 7 x 0.8mm Body, 48 Lead, 0.5mm Pitch, No Pullback; RoHS: Y; PinCount: 48; High-Reliability: Y; Code_JEDEC: MO-220-WKKD-2; ComponentLink1Description: Manufacturer URL; ComponentLink1URL: http://www.national.com/; ComponentLink2Description: LMK04001 Datasheet; ComponentLink2URL: http://www.national.com/ds/LM/LMK04001.pdf; ComponentLink3Description: LMK04001 Web Page; ComponentLink3URL: http://www.national.com/pf/LM/LMK04001.html; ComponentLink4Description: SQA48A Package Page; ComponentLink4URL: http://www.national.com/packaging/folders/sqa48a.html
footprint SQA48A (QFN, 48-Leads, Body 7x7mm, Pitch 0.5mm, Thermal Pad 5.2x5.2mm, NSC Recommended)
pins: 1 GND (power), 2 FOUT (out), 3 VCC1 (power), 4 CLKUWIRE (in), 5 DATAUWIRE (in), 6 LEUWIRE (in), 7 NC, 8 VCC2 (power), 9 LDOBYP1, 10 LDOBYP2, 11 GOE (in), 12 LD (out), 13 VCC3 (power), 14 CLKOUT0 (out), 15 ~{CLKOUT0} (out), 16 DLD_BYP (power), 17 GND (power), 18 VCC4 (power), 19 VCC5 (power), 20 CLKIN0 (in), 21 ~{CLKIN0} (in), 22 VCC6 (power), 23 CPOUT1 (out), 24 VCC7 (power), 25 CLKIN1 (in), 26 ~{CLKIN1} (in), 27 ~{SYNC} (in), 28 OSCIN (in), 29 ~{OSCIN} (in), 30 VCC8 (power), 31 VCC9 (power), 32 CPOUT2 (out), 33 VCC10 (power), 34 CLKIN0_LOS (out), 35 CLKIN1_LOS (out), 36 BIAS, 37 VCC11 (power), 38 CLKOUT1 (out), 39 ~{CLKOUT1} (out), 40 VCC12 (power), 41 CLKOUT2 (out), 42 ~{CLKOUT2} (out), 43 VCC13 (power), 44 CLKOUT3 (out), 45 ~{CLKOUT3} (out), 46 VCC14 (power), 47 CLKOUT4 (out), 48 ~{CLKOUT4} (out), 49 DAP (power)

## LMK04001BISQX/NOPB
designator U?
Low-Noise Clock Jitter Cleaner with Cascaded PLLs, 48-pin LLP, Pb-Free; PartNumber: LMK04001BISQX/NOPB; Manufacturer: National Semiconductor; PackageTopMarking: NS*UZXYTTE#*K04001BI; PowerWise: Y; CompType: Interface IC; DatasheetVersion: Jul-2009; PackageVersion: revB, May-2009; PackageReference: SQA48A; PackageDescription: LLP, Plastic, Quad, 7 x 7 x 0.8mm Body, 48 Lead, 0.5mm Pitch, No Pullback; RoHS: Y; PinCount: 48; High-Reliability: Y; Code_JEDEC: MO-220-WKKD-2; ComponentLink1Description: Manufacturer URL; ComponentLink1URL: http://www.national.com/; ComponentLink2Description: LMK04001 Datasheet; ComponentLink2URL: http://www.national.com/ds/LM/LMK04001.pdf; ComponentLink3Description: LMK04001 Web Page; ComponentLink3URL: http://www.national.com/pf/LM/LMK04001.html; ComponentLink4Description: SQA48A Package Page; ComponentLink4URL: http://www.national.com/packaging/folders/sqa48a.html
footprint SQA48A (QFN, 48-Leads, Body 7x7mm, Pitch 0.5mm, Thermal Pad 5.2x5.2mm, NSC Recommended)
pins: 1 GND (power), 2 FOUT (out), 3 VCC1 (power), 4 CLKUWIRE (in), 5 DATAUWIRE (in), 6 LEUWIRE (in), 7 NC, 8 VCC2 (power), 9 LDOBYP1, 10 LDOBYP2, 11 GOE (in), 12 LD (out), 13 VCC3 (power), 14 CLKOUT0 (out), 15 ~{CLKOUT0} (out), 16 DLD_BYP (power), 17 GND (power), 18 VCC4 (power), 19 VCC5 (power), 20 CLKIN0 (in), 21 ~{CLKIN0} (in), 22 VCC6 (power), 23 CPOUT1 (out), 24 VCC7 (power), 25 CLKIN1 (in), 26 ~{CLKIN1} (in), 27 ~{SYNC} (in), 28 OSCIN (in), 29 ~{OSCIN} (in), 30 VCC8 (power), 31 VCC9 (power), 32 CPOUT2 (out), 33 VCC10 (power), 34 CLKIN0_LOS (out), 35 CLKIN1_LOS (out), 36 BIAS, 37 VCC11 (power), 38 CLKOUT1 (out), 39 ~{CLKOUT1} (out), 40 VCC12 (power), 41 CLKOUT2 (out), 42 ~{CLKOUT2} (out), 43 VCC13 (power), 44 CLKOUT3 (out), 45 ~{CLKOUT3} (out), 46 VCC14 (power), 47 CLKOUT4 (out), 48 ~{CLKOUT4} (out), 49 DAP (power)

## LMK04002BISQ/NOPB
designator U?
Low-Noise Clock Jitter Cleaner with Cascaded PLLs, 48-pin LLP, Pb-Free; PartNumber: LMK04002BISQ/NOPB; Manufacturer: National Semiconductor; PackageTopMarking: NS*UZXYTTE#*K04002BI; PowerWise: Y; CompType: Interface IC; DatasheetVersion: Jul-2009; PackageVersion: revB, May-2009; PackageReference: SQA48A; PackageDescription: LLP, Plastic, Quad, 7 x 7 x 0.8mm Body, 48 Lead, 0.5mm Pitch, No Pullback; RoHS: Y; PinCount: 48; High-Reliability: Y; Code_JEDEC: MO-220-WKKD-2; ComponentLink1Description: Manufacturer URL; ComponentLink1URL: http://www.national.com/; ComponentLink2Description: LMK04002 Datasheet; ComponentLink2URL: http://www.national.com/ds/LM/LMK04002.pdf; ComponentLink3Description: LMK04002 Web Page; ComponentLink3URL: http://www.national.com/pf/LM/LMK04002.html; ComponentLink4Description: SQA48A Package Page; ComponentLink4URL: http://www.national.com/packaging/folders/sqa48a.html
footprint SQA48A (QFN, 48-Leads, Body 7x7mm, Pitch 0.5mm, Thermal Pad 5.2x5.2mm, NSC Recommended)
pins: 1 GND (power), 2 FOUT (out), 3 VCC1 (power), 4 CLKUWIRE (in), 5 DATAUWIRE (in), 6 LEUWIRE (in), 7 NC, 8 VCC2 (power), 9 LDOBYP1, 10 LDOBYP2, 11 GOE (in), 12 LD (out), 13 VCC3 (power), 14 CLKOUT0 (out), 15 ~{CLKOUT0} (out), 16 DLD_BYP (power), 17 GND (power), 18 VCC4 (power), 19 VCC5 (power), 20 CLKIN0 (in), 21 ~{CLKIN0} (in), 22 VCC6 (power), 23 CPOUT1 (out), 24 VCC7 (power), 25 CLKIN1 (in), 26 ~{CLKIN1} (in), 27 ~{SYNC} (in), 28 OSCIN (in), 29 ~{OSCIN} (in), 30 VCC8 (power), 31 VCC9 (power), 32 CPOUT2 (out), 33 VCC10 (power), 34 CLKIN0_LOS (out), 35 CLKIN1_LOS (out), 36 BIAS, 37 VCC11 (power), 38 CLKOUT1 (out), 39 ~{CLKOUT1} (out), 40 VCC12 (power), 41 CLKOUT2 (out), 42 ~{CLKOUT2} (out), 43 VCC13 (power), 44 CLKOUT3 (out), 45 ~{CLKOUT3} (out), 46 VCC14 (power), 47 CLKOUT4 (out), 48 ~{CLKOUT4} (out), 49 DAP (power)

## LMK04002BISQE/NOPB
designator U?
Low-Noise Clock Jitter Cleaner with Cascaded PLLs, 48-pin LLP, Pb-Free; PartNumber: LMK04002BISQE/NOPB; Manufacturer: National Semiconductor; PackageTopMarking: NS*UZXYTTE#*K04002BI; PowerWise: Y; CompType: Interface IC; DatasheetVersion: Jul-2009; PackageVersion: revB, May-2009; PackageReference: SQA48A; PackageDescription: LLP, Plastic, Quad, 7 x 7 x 0.8mm Body, 48 Lead, 0.5mm Pitch, No Pullback; RoHS: Y; PinCount: 48; High-Reliability: Y; Code_JEDEC: MO-220-WKKD-2; ComponentLink1Description: Manufacturer URL; ComponentLink1URL: http://www.national.com/; ComponentLink2Description: LMK04002 Datasheet; ComponentLink2URL: http://www.national.com/ds/LM/LMK04002.pdf; ComponentLink3Description: LMK04002 Web Page; ComponentLink3URL: http://www.national.com/pf/LM/LMK04002.html; ComponentLink4Description: SQA48A Package Page; ComponentLink4URL: http://www.national.com/packaging/folders/sqa48a.html
footprint SQA48A (QFN, 48-Leads, Body 7x7mm, Pitch 0.5mm, Thermal Pad 5.2x5.2mm, NSC Recommended)
pins: 1 GND (power), 2 FOUT (out), 3 VCC1 (power), 4 CLKUWIRE (in), 5 DATAUWIRE (in), 6 LEUWIRE (in), 7 NC, 8 VCC2 (power), 9 LDOBYP1, 10 LDOBYP2, 11 GOE (in), 12 LD (out), 13 VCC3 (power), 14 CLKOUT0 (out), 15 ~{CLKOUT0} (out), 16 DLD_BYP (power), 17 GND (power), 18 VCC4 (power), 19 VCC5 (power), 20 CLKIN0 (in), 21 ~{CLKIN0} (in), 22 VCC6 (power), 23 CPOUT1 (out), 24 VCC7 (power), 25 CLKIN1 (in), 26 ~{CLKIN1} (in), 27 ~{SYNC} (in), 28 OSCIN (in), 29 ~{OSCIN} (in), 30 VCC8 (power), 31 VCC9 (power), 32 CPOUT2 (out), 33 VCC10 (power), 34 CLKIN0_LOS (out), 35 CLKIN1_LOS (out), 36 BIAS, 37 VCC11 (power), 38 CLKOUT1 (out), 39 ~{CLKOUT1} (out), 40 VCC12 (power), 41 CLKOUT2 (out), 42 ~{CLKOUT2} (out), 43 VCC13 (power), 44 CLKOUT3 (out), 45 ~{CLKOUT3} (out), 46 VCC14 (power), 47 CLKOUT4 (out), 48 ~{CLKOUT4} (out), 49 DAP (power)